# Altium footprint library Raspberry_Pi_2.PcbLib: 1 footprints
Each footprint in its own frame and in the unit in brackets; x right, y up, seen from the top. Pads: shape width x height; smd on the part's side, far side on the other; paste and mask are expansions set on the pad; w line width, h text height; cw(c..) or ccw(c..) is an arc to the next point about the centre after c.
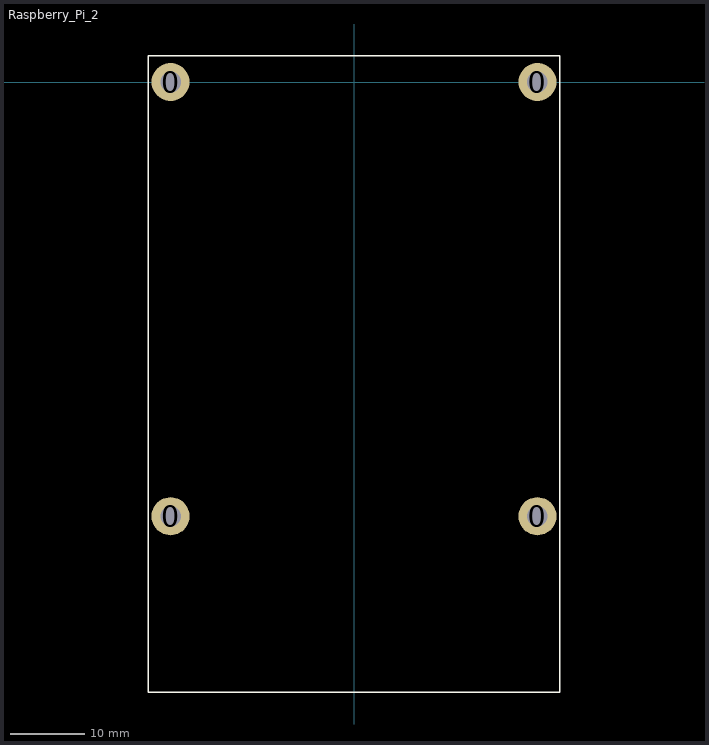
[diagram p0: the footprint, top view; thin cyan lines are the x and y axes]

## Raspberry_Pi_2 [mm]
pads (4):
  round 5.08 hole 2.75: 0(-24.5,-58) 0(-24.5,0) 0(24.5,-58) 0(24.5,0)
Top Overlay:
  lines w0.2: -27.5,-81.5 27.5,-81.5 27.5,3.5 -27.5,3.5 -27.5,-81.5
3D body: height 23.22, standoff 4.47, extent -30.42,-84.159 27.88,5.461